# EAGLE library part 1-2295018-2 (library 1-2295018-2)
SPLASH PROOF USB TYPE C REC, DUAL SMT; Tape/Reel of 900 Check prices <https://pricing.snapeda.com/search/part/1-2295018-2/?ref=eda>
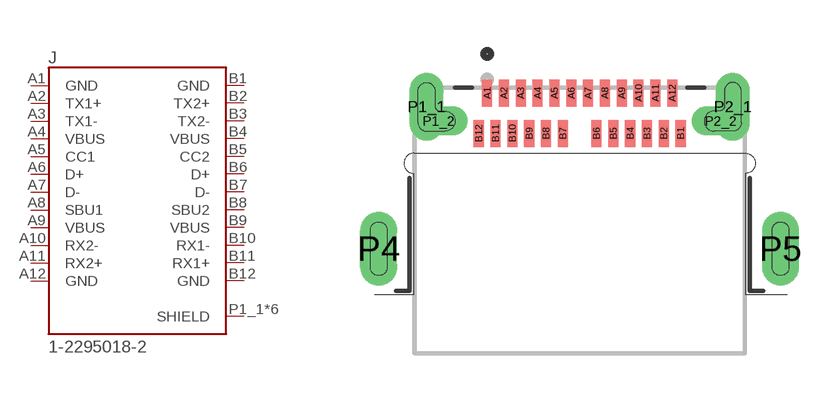
[diagram p0: symbol with the pads of TE_1-2295018-2; footprint TE_1-2295018-2]

Designator prefix J

## 1-2295018-2 (Availability: Good; Comment: 1-2295018-2; Description: USB TYPE C, REC OFFSET 0.65MM DUAL SMT; MF: TE Connectivity; MP: 1-2295018-2; Package: None; Price: None; Purchase-URL: https://pricing.snapeda.com/search/part/1-2295018-2/?ref=eda)  [TE_1-2295018-2]
A1  GND  pas
A2  TX1+  pas
A3  TX1-  pas
A4  VBUS  pas
A5  CC1  pas
A6  D+  pas
A7  D-  pas
A8  SBU1  pas
A9  VBUS  pas
A10  RX2-  pas
A11  RX2+  pas
A12  GND  pas
B1  GND  pas
B2  TX2+  pas
B3  TX2-  pas
B4  VBUS  pas
B5  CC2  pas
B6  D+  pas
B7  D-  pas
B8  SBU2  pas
B9  VBUS  pas
B10  RX1-  pas
B11  RX1+  pas
B12  GND  pas
P1_1  SHIELD  pas
P1_2  SHIELD  pas
P2_1  SHIELD  pas
P2_2  SHIELD  pas
P4  SHIELD  pas
P5  SHIELD  pas

## Footprint TE_1-2295018-2 (pad centres in mm)
smd 0.3 x 0.8: A1 -2.75,4.63; A2 -2.25,4.63; A3 -1.75,4.63; A4 -1.25,4.63; A5 -0.75,4.63; A6 -0.25,4.63; A7 0.25,4.63; A8 0.75,4.63; A9 1.25,4.63; A10 1.75,4.63; A11 2.25,4.63; A12 2.75,4.63; B1 3,3.43; B2 2.5,3.43; B3 2,3.43; B4 1.5,3.43; B5 1,3.43; B6 0.5,3.43; B7 -0.5,3.43; B8 -1,3.43; B9 -1.5,3.43; B10 -2,3.43; B11 -2.5,3.43; B12 -3,3.43
drill 0.5 long: P1_1 -4.55,4.22; P2_1 4.55,4.22
drill 0.35 long: P1_2 -4.191,3.795; P2_2 4.191,3.795
drill 0.5 pad 1.1 long: P4 -5.97,0; P5 5.97,0